# Altium footprint library SMB.PcbLib: 3 footprints
Each footprint in its own frame and in the unit in brackets; x right, y up, seen from the top. Pads: shape width x height; smd on the part's side, far side on the other; paste and mask are expansions set on the pad; w line width, h text height; cw(c..) or ccw(c..) is an arc to the next point about the centre after c.
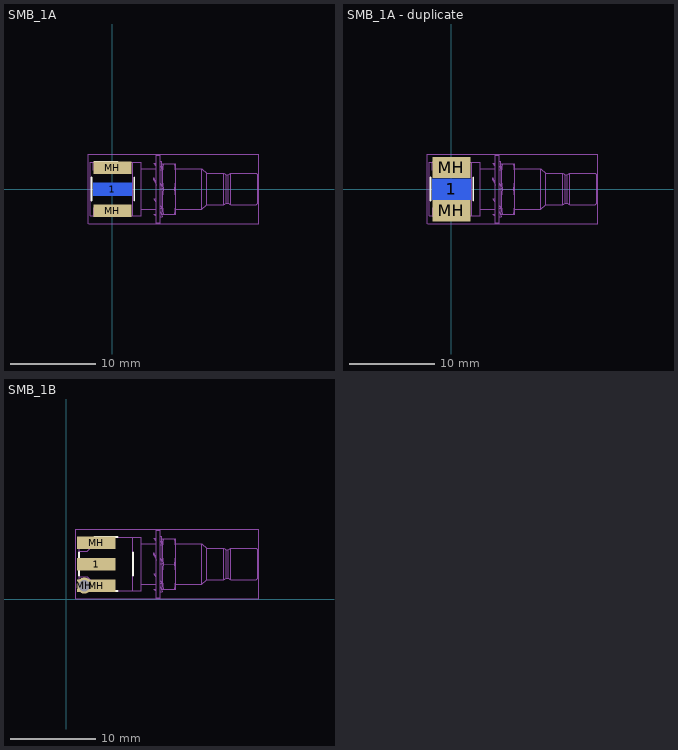
[diagram p0: the footprints below, top view; thin cyan lines are the x and y axes]

## SMB_1A [mm]
pads (3):
  rect 4.5x1.5 smd far side: 1(0,0)
  rect 4.5x1.5 smd: MH(0,-2.54) MH(0,2.54)
Top Overlay:
  lines w0.2: -2.46,-1.329 -2.46,1.369 ; -2.109,-3.18 0.589,-3.18 ; -2.109,3.195 0.589,3.195 ; 2.565,-1.329 2.565,1.369
Mechanical 13:
  circle w0.1: c-0.76,0.02 r0.46
  lines w0.1: -2.26,-2.165 -2.26,-3.155 ; -2.26,2.205 -2.26,3.195 ; 2.415,-3.13 3.365,-3.13 3.365,3.17 2.415,3.17 ; 3.365,-2.395 5.115,-2.395 ; 3.365,2.435 5.115,2.435 ; 5.082,-2.952 4.865,-2.953 5.115,-3.16 ; 5.082,3.051 4.865,3.051 5.115,2.743 ; 5.094,-1.496 4.865,-1.153 5.115,-1.153 ; 5.607,-2.266 5.865,-2.278 5.638,-1.938 ; 5.615,0.02 5.865,0.02 5.615,0.691 ; 5.615,2.318 5.865,2.318 5.615,2.675 ; 5.615,3.286 5.782,3.286 ; 5.685,-3.23 5.865,-3.23 5.615,-2.647 5.862,-3.23 ; 5.779,3.27 5.779,2.433 ; 5.844,0.02 5.844,1.42 ; 5.989,-2.98 cw(c15.106,-1.48) 5.989,0.02 ; 5.99,3.02 ccw(c15.106,1.52) 5.99,0.02 ; 7.341,-2.98 ccw(c-1.776,-1.48) 7.341,0.02 ; 7.34,3.02 cw(c-1.776,1.52) 7.34,0.02 ; 7.474,-2.395 10.54,-2.395 ; 7.474,2.435 10.54,2.435 ; 5.989,0.02 7.34,0.02 ; 10.54,-2.395 11.115,-1.82 ; 10.54,-2.395 10.54,2.435 ; 10.54,2.435 11.115,1.86 ; 11.115,-1.82 13.126,-1.82 ; 11.115,-1.82 11.115,1.86 ; 11.115,1.86 13.126,1.86 ; 13.126,-1.82 13.417,-1.67 ; 13.126,-1.82 13.126,1.86 ; 13.126,1.86 13.417,1.71 ; 13.417,-1.67 13.654,-1.67 ; 13.417,-1.67 13.417,1.71 ; 13.417,1.71 13.654,1.71 ; 13.654,-1.67 13.962,-1.82 ; 13.654,-1.67 13.654,1.71 ; 13.654,1.71 13.962,1.86 ; 13.962,-1.82 16.965,-1.82 17.115,-1.67 17.115,1.71 16.965,1.86 13.962,1.86 ; 13.962,-1.82 13.962,1.86 ; -2.61,-3.145 -2.61,3.19 -2.605,3.195 2.415,3.195 2.415,-3.145 -2.61,-3.145 ; 4.865,1.03 5.143,0.48 5.115,0.691 4.865,1.334 4.865,1.03 ; 5.115,-3.98 5.115,4.02 5.615,4.02 5.615,-3.98 5.115,-3.98 ; 5.865,-2.98 7.474,-2.98 7.474,3.02 5.865,3.02 5.865,-2.98
Mechanical 15:
  lines w0.05: -2.825,-4.08 -2.825,4.12 ; -2.82,-4.08 17.215,-4.08 17.215,4.12 -2.82,4.12
  lines w0.1: -1.26,0.02 -0.26,0.02 ; -0.76,-0.48 -0.76,0.52

## SMB_1A - duplicate [mm]
pads (3):
  rect 4.5x2.5 smd far side: 1(0,0)
  rect 4.5x2.5 smd: MH(0,-2.54) MH(0,2.54)
Top Overlay:
  lines w0.2: -2.46,-1.329 -2.46,1.369 ; -2.109,-3.18 0.589,-3.18 ; -2.109,3.195 0.589,3.195 ; 2.565,-1.329 2.565,1.369
Mechanical 13:
  circle w0.1: c-0.76,0.02 r0.46
  lines w0.1: -2.26,-2.165 -2.26,-3.155 ; -2.26,2.205 -2.26,3.195 ; 2.415,-3.13 3.365,-3.13 3.365,3.17 2.415,3.17 ; 3.365,-2.395 5.115,-2.395 ; 3.365,2.435 5.115,2.435 ; 5.082,-2.952 4.865,-2.953 5.115,-3.16 ; 5.082,3.051 4.865,3.051 5.115,2.743 ; 5.094,-1.496 4.865,-1.153 5.115,-1.153 ; 5.607,-2.266 5.865,-2.278 5.638,-1.938 ; 5.615,0.02 5.865,0.02 5.615,0.691 ; 5.615,2.318 5.865,2.318 5.615,2.675 ; 5.615,3.286 5.782,3.286 ; 5.685,-3.23 5.865,-3.23 5.615,-2.647 5.862,-3.23 ; 5.779,3.27 5.779,2.433 ; 5.844,0.02 5.844,1.42 ; 5.989,-2.98 cw(c15.106,-1.48) 5.989,0.02 ; 5.99,3.02 ccw(c15.106,1.52) 5.99,0.02 ; 7.341,-2.98 ccw(c-1.776,-1.48) 7.341,0.02 ; 7.34,3.02 cw(c-1.776,1.52) 7.34,0.02 ; 7.474,-2.395 10.54,-2.395 ; 7.474,2.435 10.54,2.435 ; 5.989,0.02 7.34,0.02 ; 10.54,-2.395 11.115,-1.82 ; 10.54,-2.395 10.54,2.435 ; 10.54,2.435 11.115,1.86 ; 11.115,-1.82 13.126,-1.82 ; 11.115,-1.82 11.115,1.86 ; 11.115,1.86 13.126,1.86 ; 13.126,-1.82 13.417,-1.67 ; 13.126,-1.82 13.126,1.86 ; 13.126,1.86 13.417,1.71 ; 13.417,-1.67 13.654,-1.67 ; 13.417,-1.67 13.417,1.71 ; 13.417,1.71 13.654,1.71 ; 13.654,-1.67 13.962,-1.82 ; 13.654,-1.67 13.654,1.71 ; 13.654,1.71 13.962,1.86 ; 13.962,-1.82 16.965,-1.82 17.115,-1.67 17.115,1.71 16.965,1.86 13.962,1.86 ; 13.962,-1.82 13.962,1.86 ; -2.61,-3.145 -2.61,3.19 -2.605,3.195 2.415,3.195 2.415,-3.145 -2.61,-3.145 ; 4.865,1.03 5.143,0.48 5.115,0.691 4.865,1.334 4.865,1.03 ; 5.115,-3.98 5.115,4.02 5.615,4.02 5.615,-3.98 5.115,-3.98 ; 5.865,-2.98 7.474,-2.98 7.474,3.02 5.865,3.02 5.865,-2.98
Mechanical 15:
  lines w0.05: -2.825,-4.08 -2.825,4.12 ; -2.82,-4.08 17.215,-4.08 17.215,4.12 -2.82,4.12
  lines w0.1: -1.26,0.02 -0.26,0.02 ; -0.76,-0.48 -0.76,0.52

## SMB_1B [mm]
pads (4):
  rect 4.5x1.5 smd: 1(3.52,4.12) MH(3.52,1.58) MH(3.52,6.66)
  round 1.9 hole 1.35: MH(2.12,1.6)
Top Overlay:
  lines w0.2: 1.485,2.791 1.485,5.489 ; 3.311,0.965 6.009,0.965 ; 3.311,7.315 6.009,7.315 ; 7.835,2.791 7.835,5.489
Mechanical 13:
  circle w0.1: c4.66,4.14 r0.46
  lines w0.1: 1.485,2.64 2.475,2.64 ; 1.485,5.64 2.475,5.64 cw(c4.66,4.14) 3.159,6.324 ; 1.72,6.28 2.52,6.28 2.52,7.08 1.948,7.08 1.72,6.852 1.72,6.299 ; 2.476,2.639 ccw(c4.66,4.14) 3.16,1.955 3.16,0.965 ; 2.501,1.2 1.948,1.2 1.72,1.428 1.72,2 2.52,2 2.52,1.2 ; 3.16,6.325 3.16,7.315 ; 7.835,0.99 8.785,0.99 8.785,7.29 7.835,7.29 ; 8.785,1.725 10.535,1.725 ; 8.785,6.555 10.535,6.555 ; 10.502,1.168 10.285,1.167 10.535,0.96 ; 10.502,7.171 10.285,7.171 10.535,6.863 ; 10.514,2.624 10.285,2.967 10.535,2.967 ; 11.027,1.854 11.285,1.842 11.058,2.182 ; 11.035,4.14 11.285,4.14 11.035,4.811 ; 11.035,6.438 11.285,6.438 11.035,6.795 ; 11.035,7.406 11.202,7.406 ; 11.105,0.89 11.285,0.89 11.035,1.473 11.282,0.89 ; 11.199,6.553 11.199,7.39 ; 11.264,4.14 11.264,5.54 ; 11.409,1.14 cw(c20.526,2.64) 11.409,4.14 ; 11.41,7.14 ccw(c20.526,5.64) 11.41,4.14 ; 12.761,1.14 ccw(c3.644,2.64) 12.761,4.14 ; 12.76,7.14 cw(c3.644,5.64) 12.76,4.14 11.409,4.14 ; 12.894,1.725 15.96,1.725 ; 12.894,6.555 15.96,6.555 ; 22.385,5.98 19.382,5.98 ; 22.385,5.98 22.535,5.83 22.535,2.45 22.385,2.3 19.382,2.3 ; 15.96,1.725 15.96,6.555 ; 15.96,1.725 16.535,2.3 ; 15.96,6.555 16.535,5.98 ; 16.535,2.3 16.535,5.98 ; 16.535,2.3 18.546,2.3 ; 16.535,5.98 18.546,5.98 ; 18.546,2.3 18.546,5.98 ; 18.546,2.3 18.837,2.45 ; 18.546,5.98 18.837,5.83 ; 18.837,2.45 18.837,5.83 ; 18.837,2.45 19.074,2.45 ; 18.837,5.83 19.074,5.83 ; 19.074,2.45 19.074,5.83 ; 19.074,2.45 19.382,2.3 ; 19.074,5.83 19.382,5.98 ; 19.382,2.3 19.382,5.98 ; 1.485,0.965 7.835,0.965 7.835,7.315 1.485,7.315 1.485,0.965 ; 10.285,5.15 10.285,5.454 10.535,4.811 10.563,4.6 10.285,5.15 ; 10.535,0.14 11.035,0.14 11.035,8.14 10.535,8.14 10.535,0.14 ; 11.285,1.14 11.285,7.14 12.894,7.14 12.894,1.14 11.285,1.14
Mechanical 15:
  lines w0.05: 1.07,0.04 22.635,0.04 22.635,8.24 1.07,8.24 1.07,0.04
  lines w0.1: 4.16,4.14 5.16,4.14 ; 4.66,3.64 4.66,4.64
3D body "59s206-400l5.stp": height 9.45, standoff -3.5, extent 1.485,0.14 22.535,8.14